# EAGLE library part SI-3033ZD-TL (library v-reg)
LDO REGULATOR
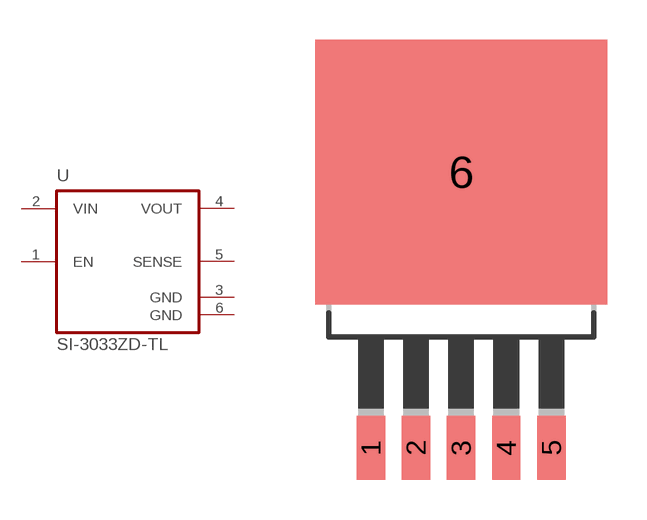
[diagram p17: symbol with the pads of TO263-5; footprint TO263-5]

Designator prefix U

## SI-3033ZD-TL  [TO263-5]
1  EN
2  VIN
3  GND
4  VOUT
5  SENSE
6  GND

## Footprint TO263-5 (pad centres in mm)
TO-263
smd 1.067 x 2.413: 1 -3.404,-8.791; 2 -1.702,-8.791; 3 0,-8.791; 4 1.702,-8.791; 5 3.404,-8.791
smd 11 x 10: 6 0,1.61